# EAGLE library part KSZ8873MLL (library Micrel)
Integrated 3 port 10/100 managed switch
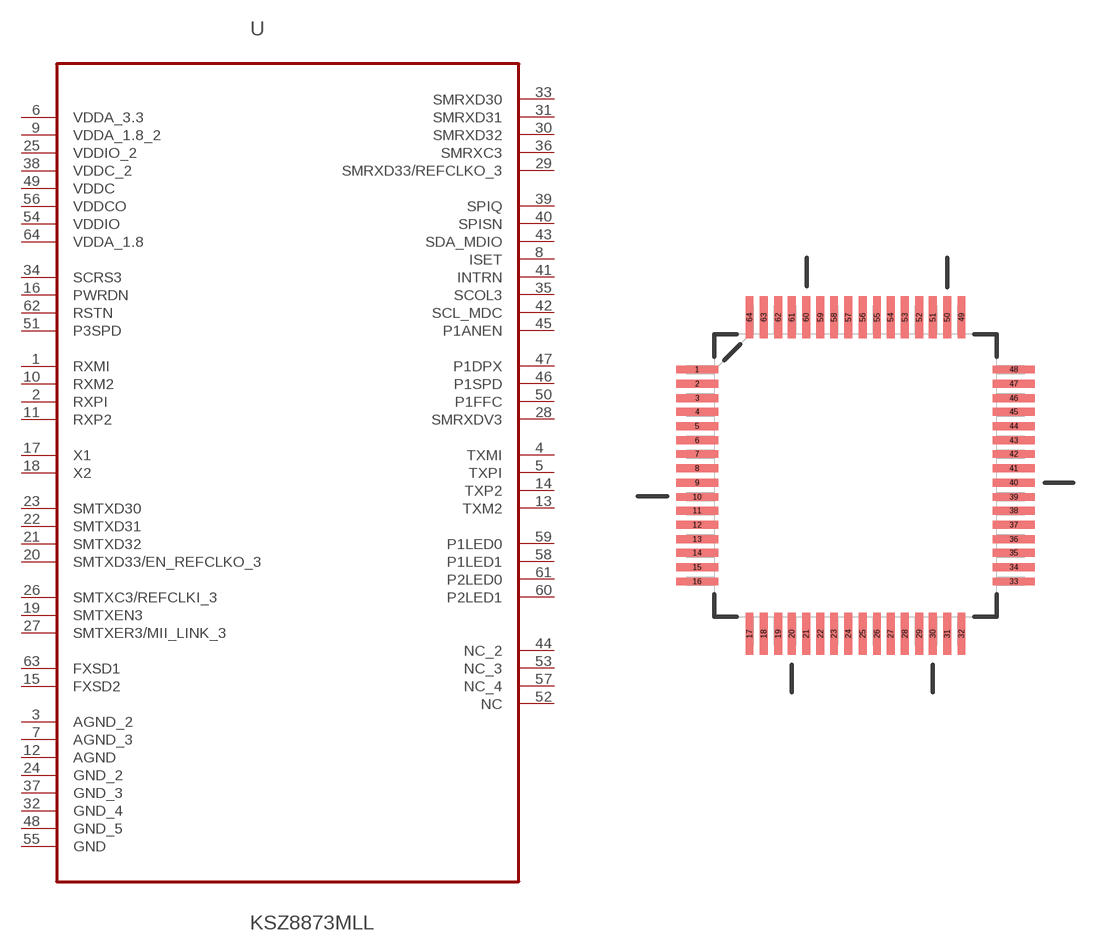
[diagram p1: symbol with the pads of QFP50P1200X1200X160-64N; footprint QFP50P1200X1200X160-64N]

Designator prefix U

## KSZ8873MLL (MPN: KSZ8873MLL; OC_FARNELL: 1864787; OC_NEWARK: 27T5795; PACKAGE: LQFP-64; SUPPLIER: MICREL SEMICONDUCTOR)  [QFP50P1200X1200X160-64N]
1  RXMI  in
2  RXPI  in
3  AGND_2  pas
4  TXMI  out
5  TXPI  out
6  VDDA_3.3  pwr
7  AGND_3  pas
8  ISET
9  VDDA_1.8_2  pwr
10  RXM2  in
11  RXP2  in
12  AGND  pas
13  TXM2  out
14  TXP2  out
15  FXSD2  in
16  PWRDN  in
17  X1  in
18  X2  in
19  SMTXEN3  in
20  SMTXD33/EN_REFCLKO_3  in
21  SMTXD32  in
22  SMTXD31  in
23  SMTXD30  in
24  GND_2  pas
25  VDDIO_2  pwr
26  SMTXC3/REFCLKI_3  in
27  SMTXER3/MII_LINK_3  in
28  SMRXDV3  out
29  SMRXD33/REFCLKO_3  out
30  SMRXD32  out
31  SMRXD31  out
32  GND_4  out
33  SMRXD30  in
34  SCRS3  in
35  SCOL3  out
36  SMRXC3  in
37  GND_3  in
38  VDDC_2  out
39  SPIQ  out
40  SPISN  out
41  INTRN  out
42  SCL_MDC  out
43  SDA_MDIO  pas
44  NC_2  pas
45  P1ANEN  out
46  P1SPD  out
47  P1DPX  out
48  GND_5  out
49  VDDC  out
50  P1FFC  out
51  P3SPD  out
52  NC  out
53  NC_3  out
54  VDDIO  out
55  GND  out
56  VDDCO  out
57  NC_4  in
58  P1LED1  out
59  P1LED0  out
60  P2LED1  out
61  P2LED0  out
62  RSTN  in
63  FXSD1  in
64  VDDA_1.8  pwr

## Footprint QFP50P1200X1200X160-64N (pad centres in mm)
smd 1.473 x 0.279: 1 -5.613,3.759; 2 -5.613,3.251; 3 -5.613,2.743; 4 -5.613,2.261; 5 -5.613,1.753; 6 -5.613,1.245; 7 -5.613,0.762; 8 -5.613,0.254; 9 -5.613,-0.254; 10 -5.613,-0.762; 11 -5.613,-1.245; 12 -5.613,-1.753; 13 -5.613,-2.261; 14 -5.613,-2.743; 15 -5.613,-3.251; 16 -5.613,-3.759; 33 5.613,-3.759; 34 5.613,-3.251; 35 5.613,-2.743; 36 5.613,-2.261; 37 5.613,-1.753; 38 5.613,-1.245; 39 5.613,-0.762; 40 5.613,-0.254; 41 5.613,0.254; 42 5.613,0.762; 43 5.613,1.245; 44 5.613,1.753; 45 5.613,2.261; 46 5.613,2.743; 47 5.613,3.251; 48 5.613,3.759
smd 0.279 x 1.473: 17 -3.759,-5.613; 18 -3.251,-5.613; 19 -2.743,-5.613; 20 -2.261,-5.613; 21 -1.753,-5.613; 22 -1.245,-5.613; 23 -0.762,-5.613; 24 -0.254,-5.613; 25 0.254,-5.613; 26 0.762,-5.613; 27 1.245,-5.613; 28 1.753,-5.613; 29 2.261,-5.613; 30 2.743,-5.613; 31 3.251,-5.613; 32 3.759,-5.613; 49 3.759,5.613; 50 3.251,5.613; 51 2.743,5.613; 52 2.261,5.613; 53 1.753,5.613; 54 1.245,5.613; 55 0.762,5.613; 56 0.254,5.613; 57 -0.254,5.613; 58 -0.762,5.613; 59 -1.245,5.613; 60 -1.753,5.613; 61 -2.261,5.613; 62 -2.743,5.613; 63 -3.251,5.613; 64 -3.759,5.613